# EAGLE library part RESISTORX4 (library barnabas_noggin_V4)
1K 064R
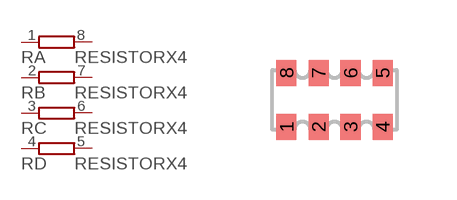
[diagram p3: symbol with the pads of RESISTOR_1206; footprint RESISTOR_1206]

Designator prefix R; gates A=RESISTORX4 B=RESISTORX4 C=RESISTORX4 D=RESISTORX4

## RESISTORX4  [RESISTOR_1206]
1  A:1  pas
2  B:1  pas
3  C:1  pas
4  D:1  pas
5  D:2  pas
6  C:2  pas
7  B:2  pas
8  A:2  pas

## Footprint RESISTOR_1206 (pad centres in mm)
BOURNS Chip Resistor Array Source: RS Component / BUORNS
smd 0.5 x 0.65: 1 -1.2,-0.675; 2 -0.4,-0.675; 3 0.4,-0.675; 4 1.2,-0.675; 5 1.2,0.675; 6 0.4,0.675; 7 -0.4,0.675; 8 -1.2,0.675